# Altium schematic symbol library GOSTInterface.SchLib: 1 symbol
Pins are listed as number, name and electrical type; pins without a type are passive.

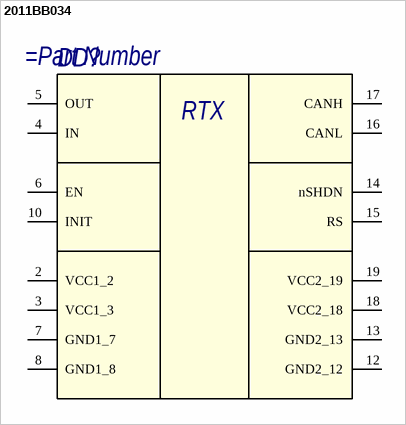
[diagram p0: symbol 2011BB034]

## 2011BB034
designator DD?
Микросборка приемопередатчика по стандарту CAN с гальванической развязкой
pins: 2 VCC1_2, 3 VCC1_3, 4 IN, 5 OUT, 6 EN, 7 GND1_7, 8 GND1_8, 10 INIT, 12 GND2_12, 13 GND2_13, 14 nSHDN, 15 RS, 16 CANL, 17 CANH, 18 VCC2_18, 19 VCC2_19
text: RTX